# Altium schematic symbol library Gamma IND.SchLib: 2 symbols
Pins are listed as number, name and electrical type; pins without a type are passive.

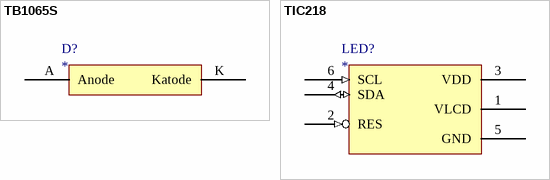
[diagram p0: symbols TB1065S to TIC218]

## TB1065S
designator D?
Подсветка диодная для индикатора TIC218
footprint TB1065S (Подсветка диодная для индикатора TIC218)
pins: A Anode, K Katode

## TIC218
designator LED?
footprint TIC218 (Индикатор ЖК 133x64  (77x56 мм))
pins: 1 VLCD, 2 RES (in), 3 VDD, 4 SDA (io), 5 GND, 6 SCL (in), 7 GND (power) hidden to GND